# EAGLE library part PTH08T230/1W (library pth08)
6A 4.5V to 14V Input adjustable Power Module
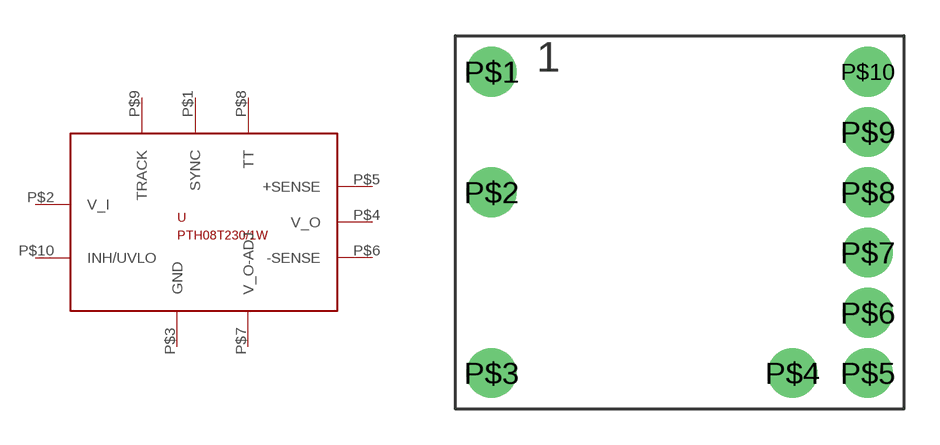
[diagram p2: symbol with the pads of ECL; footprint ECL]

Designator prefix -

## PTH08T230/1WAD  [ECL]
P$1  SYNC
P$2  V_I  pwr
P$3  GND  pwr
P$4  V_O  sup
P$5  +SENSE
P$6  -SENSE
P$7  V_O-ADJ
P$8  TT
P$9  TRACK
P$10  INH/UVLO

## Footprint ECL (pad centres in mm)
drill 1.4: P$1 -7.62,5.715; P$2 -7.62,0.635; P$3 -7.62,-6.985; P$4 5.08,-6.985; P$5 8.255,-6.985; P$6 8.255,-4.445; P$7 8.255,-1.905; P$8 8.255,0.635; P$9 8.255,3.175; P$10 8.255,5.715